# Altium integrated library W25Q128JVPIQ.IntLib: 1 symbol
Pins are listed as number, name and electrical type; pins without a type are passive.

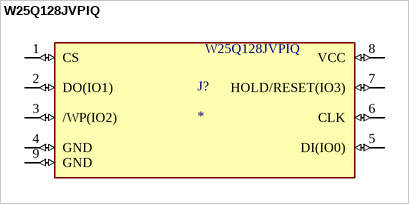
[diagram p0: symbol W25Q128JVPIQ]

## W25Q128JVPIQ
designator J?
FLASH - NOR Memory IC 128Mb (16M x 8) SPI - Quad I/O, QPI, DTR 133 MHz 8-WSON (6x5); MF: Winbond; MP: W25Q128JVPIQ; SnapEDA_Link: https://www.snapeda.com/parts/W25Q128JVPIQ/Winbond+Electronics/view-part/?ref=snap; Package: WDFN-8 Winbond Electronics; Value: *; Check_prices: https://www.snapeda.com/parts/W25Q128JVPIQ/Winbond+Electronics/view-part/?ref=eda
footprint W25Q128JVPIQ
pins: 1 CS (io), 2 DO(IO1) (io), 3 /WP(IO2) (io), 4 GND (io), 5 DI(IO0) (io), 6 CLK (io), 7 HOLD/RESET(IO3) (io), 8 VCC (io), 9 GND (io)